# Altium footprint library Other.PcbLib: 20 footprints (part 2 of 2)
Each footprint in its own frame and in the unit in brackets; x right, y up, seen from the top. Pads: shape width x height; smd on the part's side, far side on the other; paste and mask are expansions set on the pad; w line width, h text height; cw(c..) or ccw(c..) is an arc to the next point about the centre after c.
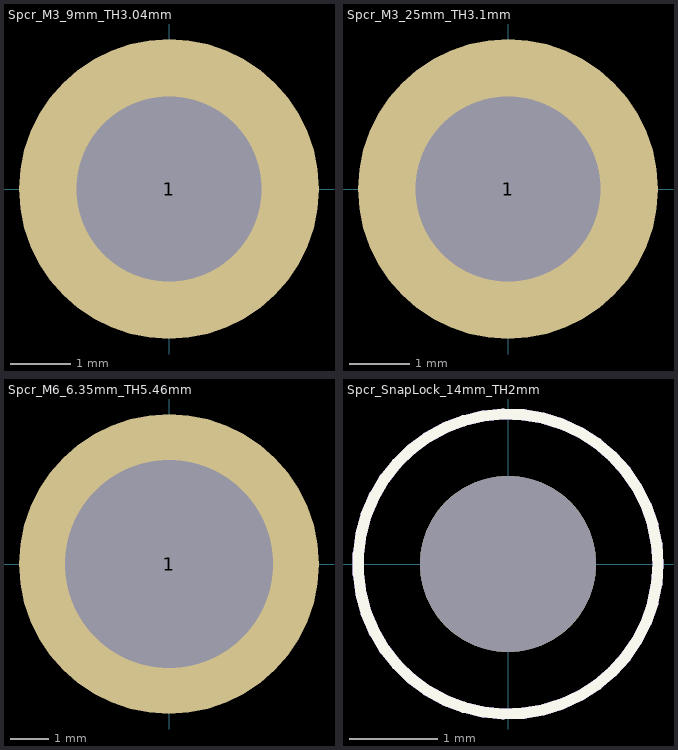
[diagram p1: the footprints below, top view; thin cyan lines are the x and y axes]

## Spcr_M3_9mm_TH3.04mm [mil] "20210416/M-C.Calderon"
pads (1):
  round 195 hole 120: 1(0,0)
3D body "r30-1000902.stp": height 354.33, standoff 0, extent -111.38,-96.45 111.38,96.46

## Spcr_M3_25mm_TH3.1mm [mil] "20210415/M-C.Calderon"
pads (1):
  round 195 hole 120: 1(0,0)
3D body "keystone-PN24478_5mm.STEP": height 984.76, standoff 0.5, extent -98.43,-113.65 98.42,113.65

## Spcr_M6_6.35mm_TH5.46mm [mil] "/ 20210211 / C-D Viveros"
pads (1):
  round 310 hole 215: 1(0,0)
3D body "keystone-PN4893.STEP": height 250.5, standoff -59.5, extent -140.5,-140.5 140.5,140.5

## Spcr_SnapLock_14mm_TH2mm [mm] "20221220 / E.Naranjo"
pads (1):
  round 2 hole 2 unplated mask+0.102: ""(0,0)
Top Layer keep-out:
  circle w0.127: c0,0 r1.7
Bottom Layer keep-out:
  circle w0.127: c0,0 r1.7
Top Overlay:
  circle w0.127: c0,0 r1.7
Bottom Overlay:
  circle w0.127: c0,0 r1.7
3D body "MINIATURE SNAP-ON SPACER ARRESTI.stp": height 17.55, standoff -3.53, extent -1.697,-1.7 1.697,1.7